# EAGLE library part MDR_R_36G (library EIT_Recorder)
MDR 36 pin with ground
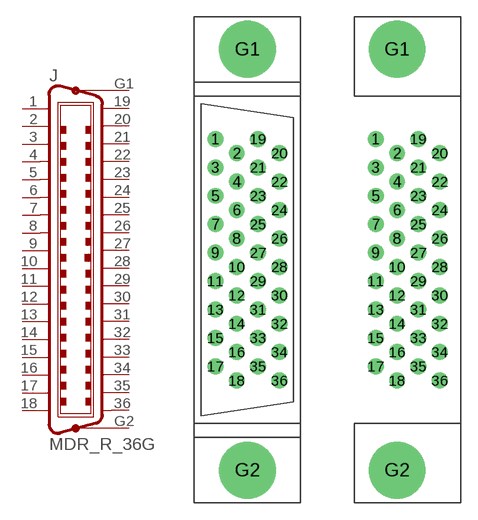
[diagram p6: symbol with the pads of MDR_R_36GV; footprints MDR_R_36GV, MDR_R_36GH]

Designator prefix J

## MDR_R_36GV  [MDR_R_36GV]
1  1  pas
2  2  pas
3  3  pas
4  4  pas
5  5  pas
6  6  pas
7  7  pas
8  8  pas
9  9  pas
10  10  pas
11  11  pas
12  12  pas
13  13  pas
14  14  pas
15  15  pas
16  16  pas
17  17  pas
18  18  pas
19  19  pas
20  20  pas
21  21  pas
22  22  pas
23  23  pas
24  24  pas
25  25  pas
26  26  pas
27  27  pas
28  28  pas
29  29  pas
30  30  pas
31  31  pas
32  32  pas
33  33  pas
34  34  pas
35  35  pas
36  36  pas
G1  G  pas
G2  G1  pas

## MDR_R_36GH  [MDR_R_36GH]
Pads as for MDR_R_36GV

## Footprint MDR_R_36GV (pad centres in mm)
drill 0.8 pad 1.422: 1 -3.81,10.795; 2 -1.905,9.525; 3 -3.81,8.255; 4 -1.905,6.985; 5 -3.81,5.715; 6 -1.905,4.445; 7 -3.81,3.175; 8 -1.905,1.905; 9 -3.81,0.635; 10 -1.905,-0.635; 11 -3.81,-1.905; 12 -1.905,-3.175; 13 -3.81,-4.445; 14 -1.905,-5.715; 15 -3.81,-6.985; 16 -1.905,-8.255; 17 -3.81,-9.525; 18 -1.905,-10.795; 19 0,10.795; 20 1.905,9.525; 21 0,8.255; 22 1.905,6.985; 23 0,5.715; 24 1.905,4.445; 25 0,3.175; 26 1.905,1.905; 27 0,0.635; 28 1.905,-0.635; 29 0,-1.905; 30 1.905,-3.175; 31 0,-4.445; 32 1.905,-5.715; 33 0,-6.985; 34 1.905,-8.255; 35 0,-9.525; 36 1.905,-10.795
drill 2.794 pad 5.08: G1 -0.953,18.809; G2 -0.953,-18.809

## Footprint MDR_R_36GH (pad centres in mm)
drill 0.8 pad 1.422: 1 -3.81,10.795; 2 -1.905,9.525; 3 -3.81,8.255; 4 -1.905,6.985; 5 -3.81,5.715; 6 -1.905,4.445; 7 -3.81,3.175; 8 -1.905,1.905; 9 -3.81,0.635; 10 -1.905,-0.635; 11 -3.81,-1.905; 12 -1.905,-3.175; 13 -3.81,-4.445; 14 -1.905,-5.715; 15 -3.81,-6.985; 16 -1.905,-8.255; 17 -3.81,-9.525; 18 -1.905,-10.795; 19 0,10.795; 20 1.905,9.525; 21 0,8.255; 22 1.905,6.985; 23 0,5.715; 24 1.905,4.445; 25 0,3.175; 26 1.905,1.905; 27 0,0.635; 28 1.905,-0.635; 29 0,-1.905; 30 1.905,-3.175; 31 0,-4.445; 32 1.905,-5.715; 33 0,-6.985; 34 1.905,-8.255; 35 0,-9.525; 36 1.905,-10.795
drill 2.794 pad 5.08: G1 -1.905,18.809; G2 -1.905,-18.809